# EAGLE library part SWITCH-DPDT (library RemoteParts)
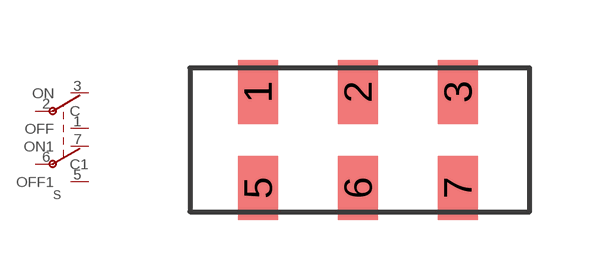
[diagram p9: symbol with the pads of JS202011JCQN; footprint JS202011JCQN]

Designator prefix S

## SWITCH-DPDT-300MA-6V-SMD (CREATOR: Swanson; DESC: SWITCH SLIDE DPDT 300MA 6V; DIST: DIGIKEY; DISTPN: CKN10723CT-ND; MFR: C&K; MOUNTING: SMD; MPN: JS202011JCQN)  [JS202011JCQN]
1  OFF
2  C
3  ON
5  OFF1
6  C1
7  ON1

## Footprint JS202011JCQN (pad centres in mm)
smd 1 x 1.6: 1 -2.5,1.2; 2 0,1.2; 3 2.5,1.2; 5 -2.5,-1.2; 6 0,-1.2; 7 2.5,-1.2